# EAGLE library part CRUMB2560 (library chip45)
Crumb2560 Crumb2560 is a higly integrated rapid prototyping module with the ATmega2560 AVR microcontroller by Atmel.
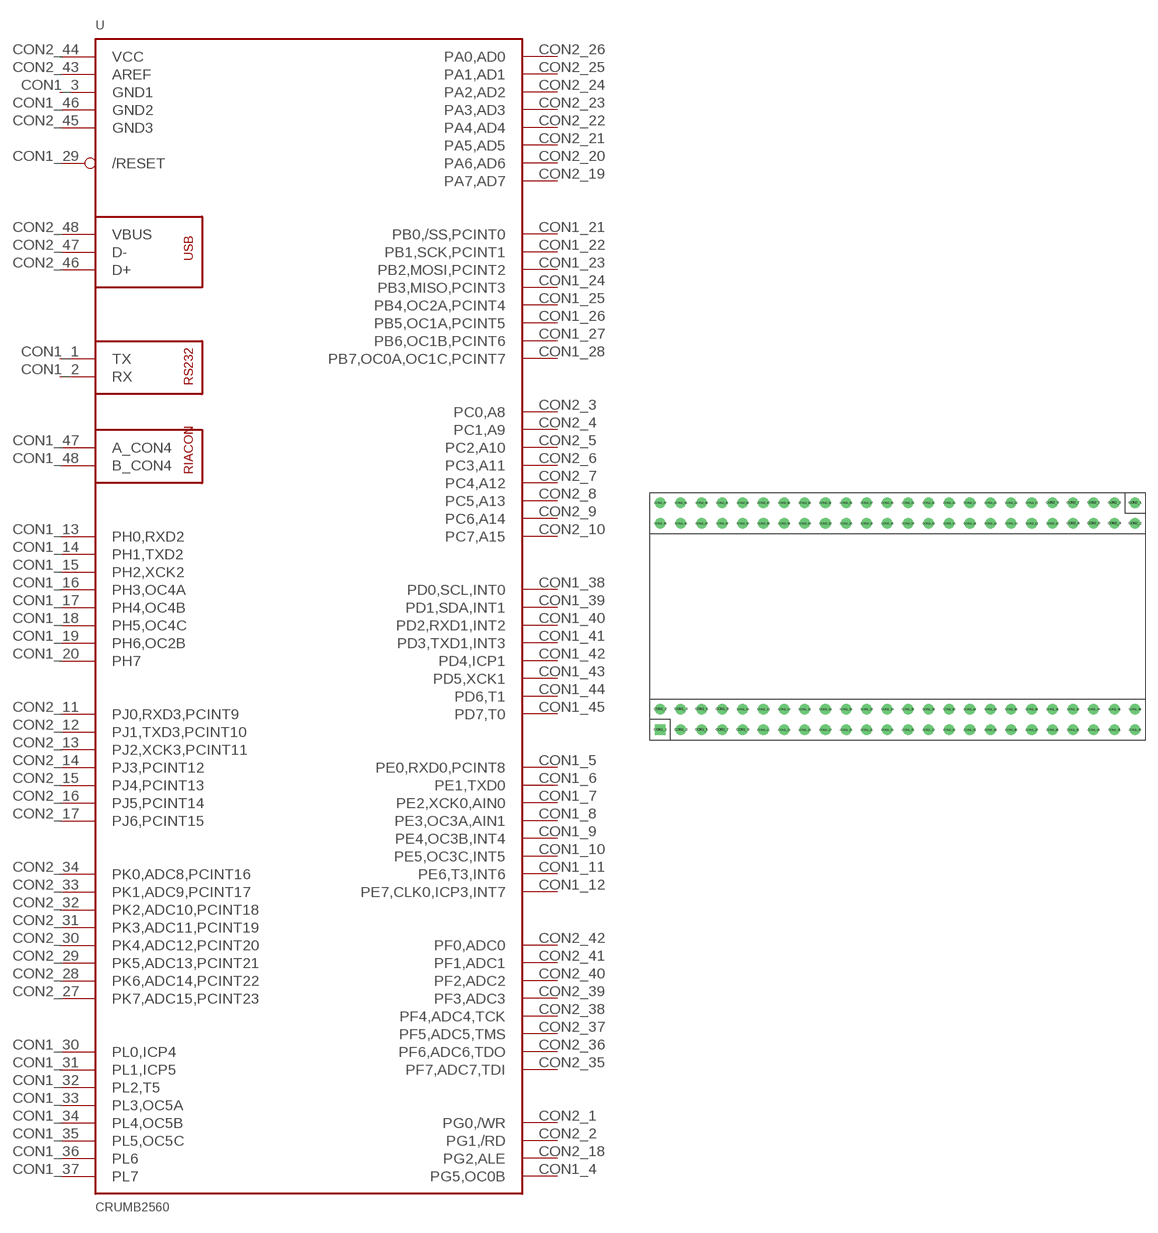
[diagram p9: symbol with the pads of CRUMB2560; footprint CRUMB2560]

Designator prefix -

## CRUMB2560 (EEPROM: 4kB; FLASH: 256kB; PERIPHERALS: CP2102 USB-UART converter, MAX3221 RS232 transceiver, SN75ALS176 RS485 transceiver; PROCESSOR: ATmega2560; RAM: 8kB SRAM)  [CRUMB2560]
CON1_1  TX  out
CON1_2  RX  in
CON1_3  GND1  pwr
CON1_4  PG5,OC0B
CON1_5  PE0,RXD0,PCINT8
CON1_6  PE1,TXD0
CON1_7  PE2,XCK0,AIN0
CON1_8  PE3,OC3A,AIN1
CON1_9  PE4,OC3B,INT4
CON1_10  PE5,OC3C,INT5
CON1_11  PE6,T3,INT6
CON1_12  PE7,CLK0,ICP3,INT7
CON1_13  PH0,RXD2
CON1_14  PH1,TXD2
CON1_15  PH2,XCK2
CON1_16  PH3,OC4A
CON1_17  PH4,OC4B
CON1_18  PH5,OC4C
CON1_19  PH6,OC2B
CON1_20  PH7
CON1_21  PB0,/SS,PCINT0
CON1_22  PB1,SCK,PCINT1
CON1_23  PB2,MOSI,PCINT2
CON1_24  PB3,MISO,PCINT3
CON1_25  PB4,OC2A,PCINT4
CON1_26  PB5,OC1A,PCINT5
CON1_27  PB6,OC1B,PCINT6
CON1_28  PB7,OC0A,OC1C,PCINT7
CON1_29  /RESET  in
CON1_30  PL0,ICP4
CON1_31  PL1,ICP5
CON1_32  PL2,T5
CON1_33  PL3,OC5A
CON1_34  PL4,OC5B
CON1_35  PL5,OC5C
CON1_36  PL6
CON1_37  PL7
CON1_38  PD0,SCL,INT0
CON1_39  PD1,SDA,INT1
CON1_40  PD2,RXD1,INT2
CON1_41  PD3,TXD1,INT3
CON1_42  PD4,ICP1
CON1_43  PD5,XCK1
CON1_44  PD6,T1
CON1_45  PD7,T0
CON1_46  GND2  pwr
CON1_47  A_CON4
CON1_48  B_CON4
CON2_1  PG0,/WR
CON2_2  PG1,/RD
CON2_3  PC0,A8
CON2_4  PC1,A9
CON2_5  PC2,A10
CON2_6  PC3,A11
CON2_7  PC4,A12
CON2_8  PC5,A13
CON2_9  PC6,A14
CON2_10  PC7,A15
CON2_11  PJ0,RXD3,PCINT9
CON2_12  PJ1,TXD3,PCINT10
CON2_13  PJ2,XCK3,PCINT11
CON2_14  PJ3,PCINT12
CON2_15  PJ4,PCINT13
CON2_16  PJ5,PCINT14
CON2_17  PJ6,PCINT15
CON2_18  PG2,ALE
CON2_19  PA7,AD7
CON2_20  PA6,AD6
CON2_21  PA5,AD5
CON2_22  PA4,AD4
CON2_23  PA3,AD3
CON2_24  PA2,AD2
CON2_25  PA1,AD1
CON2_26  PA0,AD0
CON2_27  PK7,ADC15,PCINT23
CON2_28  PK6,ADC14,PCINT22
CON2_29  PK5,ADC13,PCINT21
CON2_30  PK4,ADC12,PCINT20
CON2_31  PK3,ADC11,PCINT19
CON2_32  PK2,ADC10,PCINT18
CON2_33  PK1,ADC9,PCINT17
CON2_34  PK0,ADC8,PCINT16
CON2_35  PF7,ADC7,TDI
CON2_36  PF6,ADC6,TDO
CON2_37  PF5,ADC5,TMS
CON2_38  PF4,ADC4,TCK
CON2_39  PF3,ADC3
CON2_40  PF2,ADC2
CON2_41  PF1,ADC1
CON2_42  PF0,ADC0
CON2_43  AREF  in
CON2_44  VCC  pwr
CON2_45  GND3  pwr
CON2_46  D+
CON2_47  D-
CON2_48  VBUS

## Footprint CRUMB2560 (pad centres in mm)
Crumb2560 Crumb2560 offers extensive equipment on just 60x30mm size: the ATmega2560 microcontroller, serial RS232 interface incl. transceiver, serial RS485 interface incl. transceiver, USB 2.0 full speed interface with USB UART converter CP2102, reset pullup, standard 6-pin AVR ISP header for in-system programming, 32.768kHz TOSC crystal and XTAL crystal (frequency selectable as option), status LED and pin headers with all ATmega2560 signals.
drill 0.8 square: CON1_1 -29.21,-13.97
drill 0.8 round: CON1_2 -29.21,-11.43; CON1_3 -26.67,-13.97; CON1_4 -26.67,-11.43; CON1_5 -24.13,-13.97; CON1_6 -24.13,-11.43; CON1_7 -21.59,-13.97; CON1_8 -21.59,-11.43; CON1_9 -19.05,-13.97; CON1_10 -19.05,-11.43; CON1_11 -16.51,-13.97; CON1_12 -16.51,-11.43; CON1_13 -13.97,-13.97; CON1_14 -13.97,-11.43; CON1_15 -11.43,-13.97; CON1_16 -11.43,-11.43; CON1_17 -8.89,-13.97; CON1_18 -8.89,-11.43; CON1_19 -6.35,-13.97; CON1_20 -6.35,-11.43; CON1_21 -3.81,-13.97; CON1_22 -3.81,-11.43; CON1_23 -1.27,-13.97; CON1_24 -1.27,-11.43; CON1_25 1.27,-13.97; CON1_26 1.27,-11.43; CON1_27 3.81,-13.97; CON1_28 3.81,-11.43; CON1_29 6.35,-13.97; CON1_30 6.35,-11.43; CON1_31 8.89,-13.97; CON1_32 8.89,-11.43; CON1_33 11.43,-13.97; CON1_34 11.43,-11.43; CON1_35 13.97,-13.97; CON1_36 13.97,-11.43; CON1_37 16.51,-13.97; CON1_38 16.51,-11.43; CON1_39 19.05,-13.97; CON1_40 19.05,-11.43; CON1_41 21.59,-13.97; CON1_42 21.59,-11.43; CON1_43 24.13,-13.97; CON1_44 24.13,-11.43; CON1_45 26.67,-13.97; CON1_46 26.67,-11.43; CON1_47 29.21,-13.97; CON1_48 29.21,-11.43; CON2_1 29.21,13.97; CON2_2 29.21,11.43; CON2_3 26.67,13.97; CON2_4 26.67,11.43; CON2_5 24.13,13.97; CON2_6 24.13,11.43; CON2_7 21.59,13.97; CON2_8 21.59,11.43; CON2_9 19.05,13.97; CON2_10 19.05,11.43; CON2_11 16.51,13.97; CON2_12 16.51,11.43; CON2_13 13.97,13.97; CON2_14 13.97,11.43; CON2_15 11.43,13.97; CON2_16 11.43,11.43; CON2_17 8.89,13.97; CON2_18 8.89,11.43; CON2_19 6.35,13.97; CON2_20 6.35,11.43; CON2_21 3.81,13.97; CON2_22 3.81,11.43; CON2_23 1.27,13.97; CON2_24 1.27,11.43; CON2_25 -1.27,13.97; CON2_26 -1.27,11.43; CON2_27 -3.81,13.97; CON2_28 -3.81,11.43; CON2_29 -6.35,13.97; CON2_30 -6.35,11.43; CON2_31 -8.89,13.97; CON2_32 -8.89,11.43; CON2_33 -11.43,13.97; CON2_34 -11.43,11.43; CON2_35 -13.97,13.97; CON2_36 -13.97,11.43; CON2_37 -16.51,13.97; CON2_38 -16.51,11.43; CON2_39 -19.05,13.97; CON2_40 -19.05,11.43; CON2_41 -21.59,13.97; CON2_42 -21.59,11.43; CON2_43 -24.13,13.97; CON2_44 -24.13,11.43; CON2_45 -26.67,13.97; CON2_46 -26.67,11.43; CON2_47 -29.21,13.97; CON2_48 -29.21,11.43